# Altium footprint library MergenElektronik_Logics_Timers.PcbLib: 1 footprints
Each footprint in its own frame and in the unit in brackets; x right, y up, seen from the top. Pads: shape width x height; smd on the part's side, far side on the other; paste and mask are expansions set on the pad; w line width, h text height; cw(c..) or ccw(c..) is an arc to the next point about the centre after c.
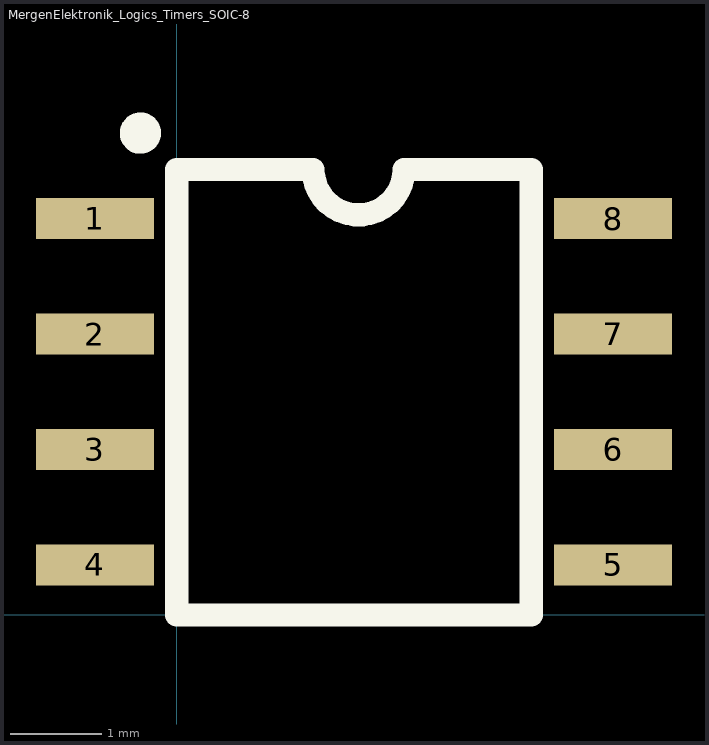
[diagram p0: the footprint, top view; thin cyan lines are the x and y axes]

## MergenElektronik_Logics_Timers_SOIC-8 [mm] "SOIC-8"
pads (8):
  rect 1.3x0.45 smd: 1(-0.9,4.36) 2(-0.9,3.09) 3(-0.9,1.82) 4(-0.9,0.55) 5(4.8,0.55) 6(4.8,1.82) 7(4.8,3.09) 8(4.8,4.36)
Top Overlay:
  circle w0.254: c-0.4,5.3 r0.1
  lines w0.254: 0,0 3.9,0 3.9,4.9 2.5,4.9 cw(c2,4.9) 1.5,4.9 0,4.9 0,0
3D body: height 1.55, standoff 0, extent -1.1,0 4.9,4.9